# Altium footprint library EISI.PcbLib: 695 footprints (part 36 of 44)
Each footprint in its own frame and in the unit in brackets; x right, y up, seen from the top. Pads: shape width x height; smd on the part's side, far side on the other; paste and mask are expansions set on the pad; w line width, h text height; cw(c..) or ccw(c..) is an arc to the next point about the centre after c.
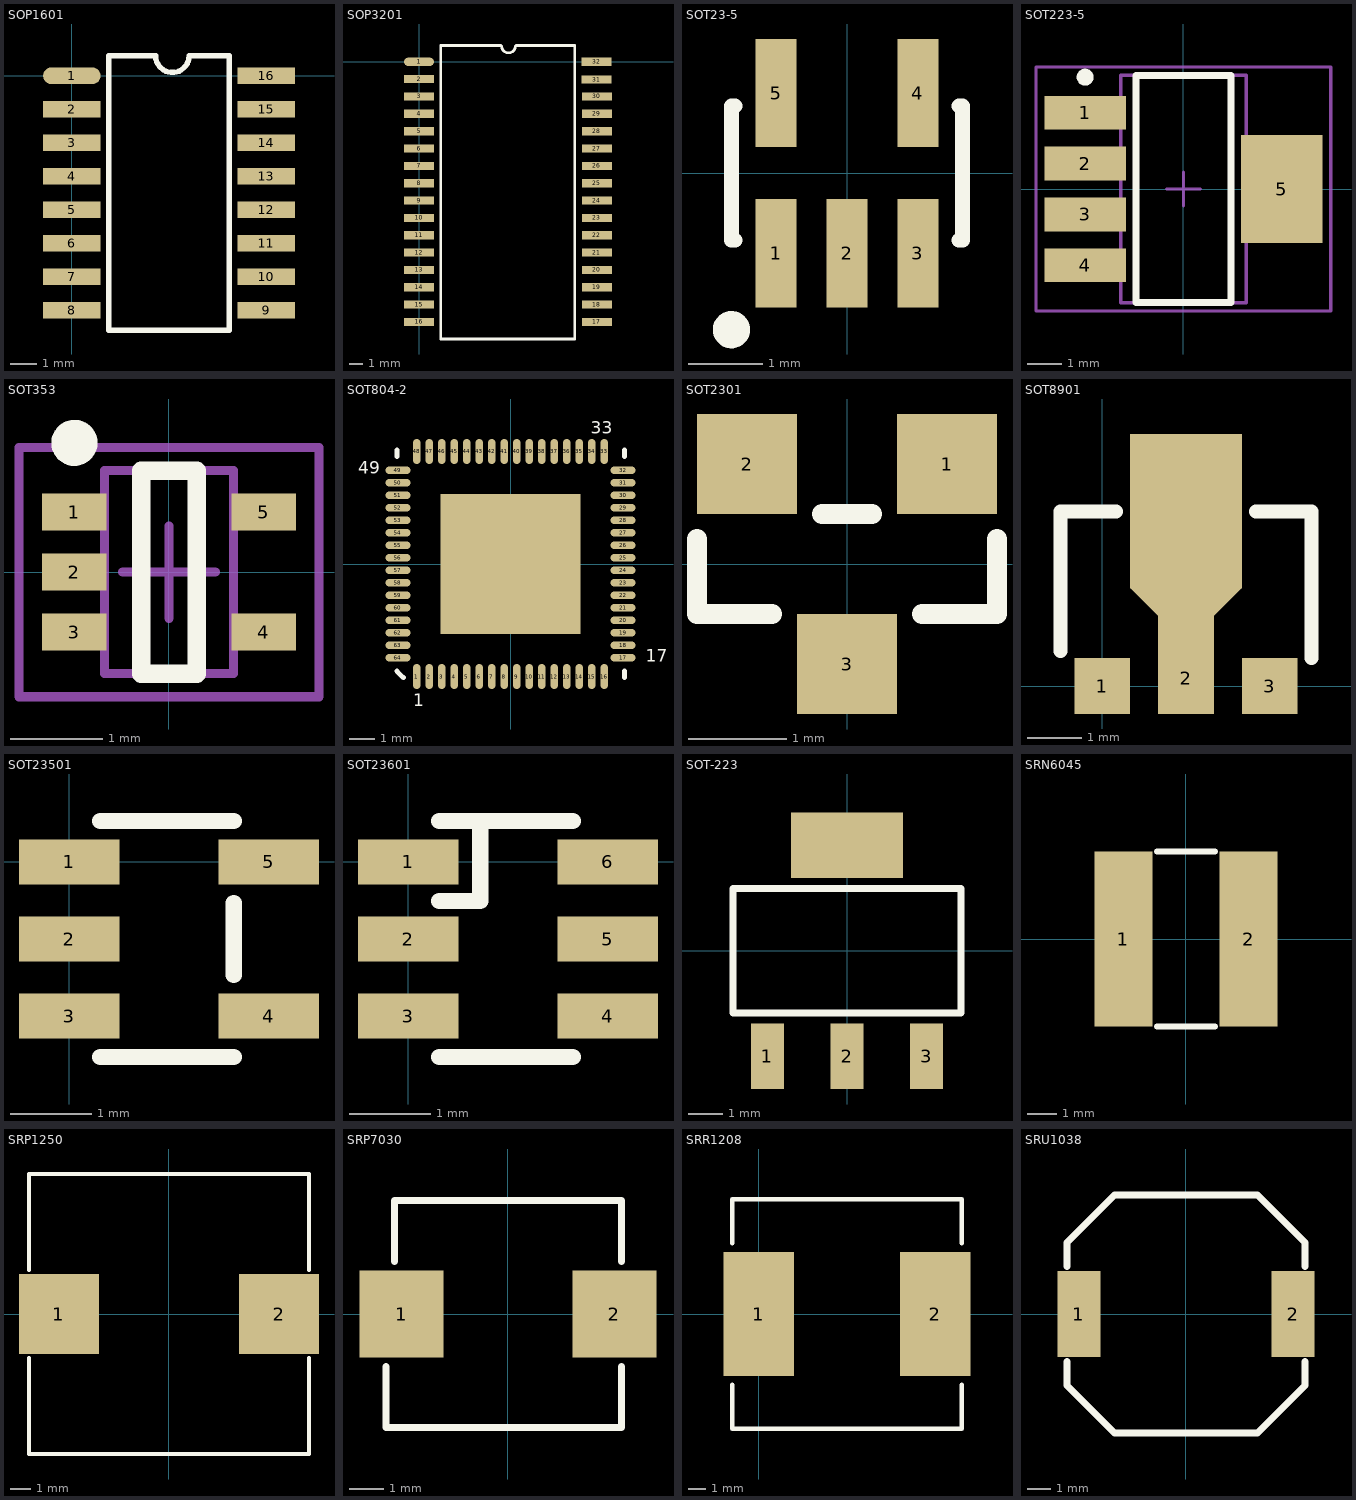
[diagram p35: the footprints below, top view; thin cyan lines are the x and y axes]

## SOP1601 [mil]
pads (16):
  oval 86x25 smd: 1(0,0)
  rect 86x25 smd: 2(0,-50) 3(0,-100) 4(0,-150) 5(0,-200) 6(0,-250) 7(0,-300) 8(0,-350) 9(290,-350) 10(290,-300) 11(290,-250) 12(290,-200) 13(290,-150) 14(290,-100) 15(290,-50) 16(290,0)
TopOverlay:
  lines w7.87: 125,30 55,30 55,20 55,-380 235,-380 235,30 175,30
  lines w8: 125,30 ccw(c150,30) 175,30

## SOP3201 [mm]
pads (32):
  oval 2.2x0.6 smd: 1(0,0)
  rect 2.2x0.6 smd: 2(0,-1.27) 3(0,-2.54) 4(0,-3.81) 5(0,-5.08) 6(0,-6.35) 7(0,-7.62) 8(0,-8.89) 9(0,-10.16) 10(0,-11.43) 11(0,-12.7) 12(0,-13.97) 13(0,-15.24) 14(0,-16.51) 15(0,-17.78) 16(0,-19.05) 17(13.035,-19.05) 18(13.035,-17.78) 19(13.035,-16.51) 20(13.035,-15.24) 21(13.035,-13.97) 22(13.035,-12.7) 23(13.035,-11.43) 24(13.035,-10.16) 25(13.035,-8.89) 26(13.035,-7.62) 27(13.035,-6.35) 28(13.035,-5.08) 29(13.035,-3.81) 30(13.035,-2.54) 31(13,-1.3) 32(13,0)
TopOverlay:
  lines w0.2: 6,1.2 5.1,1.2 1.6,1.2 1.6,-17.272 1.6,-20.3 11.4,-20.3 11.4,1.2 7.1,1.2
  lines w0.203: 6.047,1.162 ccw(c6.555,1.162) 7.063,1.162

## SOT23-5 [mm] "SOT-23/SC-74A; 5 Leads; Body 3 x 3 mm, inc. leads (LxW max)"
height 1.45
pads (5):
  rect 0.55x1.45 smd: 1(-0.95,-1.075) 2(0,-1.075) 3(0.95,-1.075) 4(0.95,1.075) 5(-0.95,1.075)
TopOverlay:
  circle w0.25: c-1.55,-2.1 r0.125
  lines w0.2: -1.5,-0.9 -1.55,-0.9 -1.55,0.9 -1.5,0.9 ; 1.5,-0.9 1.55,-0.9 1.55,0.9 1.5,0.9

## SOT223-5 [mm] "SOT223, 5-Leads, Body 6.5x3.5mm, Pitch 1.5mm, Lead Span 7mm, IPC Medium Density"
height 1.8
pads (5):
  rect 2.4x1 smd: 1(-2.9,2.25) 2(-2.9,0.75) 3(-2.9,-0.75) 4(-2.9,-2.25)
  rect 2.4x3.2 smd: 5(2.9,0)
TopOverlay:
  circle w0.25: c-2.9,3.3 r0.125
  lines w0.2: -1.4,-3.35 1.4,-3.35 1.4,3.35 -1.4,3.35 -1.4,-3.35
Mechanical13:
  lines w0.1: -1.85,-3.35 1.85,-3.35 1.85,3.35 -1.85,3.35 -1.85,-3.35
Mechanical15:
  lines w0.1: -0.5,0 0.5,0 ; 0,-0.5 0,0.5 ; -4.35,-3.6 4.35,-3.6 4.35,3.6 -4.35,3.6 -4.35,-3.6
3D body: height 1.8, standoff 0, extent -1.85,-3.35 1.85,3.35

## SOT353 [mm] "SOT353, 5-Leads, Body 2x1.3mm, Pitch 0.65mm, Lead Span 2.1mm, IPC Medium Density"
height 1.1
pads (5):
  rect 0.7x0.4 smd: 1(-1.025,0.65) 2(-1.025,0) 3(-1.025,-0.65) 4(1.025,-0.65) 5(1.025,0.65)
TopOverlay:
  circle w0.25: c-1.025,1.4 r0.125
  lines w0.2: -0.3,-1.1 0.3,-1.1 0.3,1.1 -0.3,1.1 -0.3,-1.1
Mechanical13:
  lines w0.1: -0.7,-1.1 -0.7,1.1 0.7,1.1 0.7,-1.1 -0.7,-1.1
Mechanical15:
  lines w0.1: -0.5,0 0.5,0 ; 0,-0.5 0,0.5 ; -1.625,-1.35 -1.625,1.35 1.625,1.35 1.625,-1.35 -1.625,-1.35
3D body: height 1.1, standoff 0, extent -0.7,-1.1 0.7,1.1

## SOT804-2 [mm] "Quad Flat No Lead; 64 Terminals; Body 9 x 9 mm; Pitch 0.5 mm"
height 1
pads (65):
  oval 0.3x1 smd: 1(-3.75,-4.5) 2(-3.25,-4.5) 3(-2.75,-4.5) 4(-2.25,-4.5) 5(-1.75,-4.5) 6(-1.25,-4.5) 7(-0.75,-4.5) 8(-0.25,-4.5) 9(0.25,-4.5) 10(0.75,-4.5) 11(1.25,-4.5) 12(1.75,-4.5) 13(2.25,-4.5) 14(2.75,-4.5) 15(3.25,-4.5) 16(3.75,-4.5) 33(3.75,4.5) 34(3.25,4.5) 35(2.75,4.5) 36(2.25,4.5) 37(1.75,4.5) 38(1.25,4.5) 39(0.75,4.5) 40(0.25,4.5) 41(-0.25,4.5) 42(-0.75,4.5) 43(-1.25,4.5) 44(-1.75,4.5) 45(-2.25,4.5) 46(-2.75,4.5) 47(-3.25,4.5) 48(-3.75,4.5)
  oval 1x0.3 smd: 17(4.5,-3.75) 18(4.5,-3.25) 19(4.5,-2.75) 20(4.5,-2.25) 21(4.5,-1.75) 22(4.5,-1.25) 23(4.5,-0.75) 24(4.5,-0.25) 25(4.5,0.25) 26(4.5,0.75) 27(4.5,1.25) 28(4.5,1.75) 29(4.5,2.25) 30(4.5,2.75) 31(4.5,3.25) 32(4.5,3.75) 49(-4.5,3.75) 50(-4.5,3.25) 51(-4.5,2.75) 52(-4.5,2.25) 53(-4.5,1.75) 54(-4.5,1.25) 55(-4.5,0.75) 56(-4.5,0.25) 57(-4.5,-0.25) 58(-4.5,-0.75) 59(-4.5,-1.25) 60(-4.5,-1.75) 61(-4.5,-2.25) 62(-4.5,-2.75) 63(-4.5,-3.25) 64(-4.5,-3.75)
  rect 5.6x5.6 smd: ""(0,0)
TopOverlay:
  lines w0.2: -4.55,-4.29 -4.29,-4.55 ; -4.55,4.29 -4.55,4.55 ; 4.55,-4.55 4.55,-4.29 ; 4.55,4.29 4.55,4.55
  text "1" at -3.9,-5.7 h0.5
  text "17" at 5.4,-3.9 h0.5
  text "33" at 3.2,5.2 h0.5
  text "49" at -6.1,3.6 h0.5

## SOT2301 [mil]
pads (3):
  rect 40x40 smd: 1(40,40) 2(-40,40) 3(0,-40)
TopOverlay:
  lines w7.87: -60,10 -60,-20 -30,-20 ; -10,20 10,20 ; 30,-20 60,-20 60,10

## SOT8901 [mil]
pads (8):
  rect 40x40 smd: 1(0,0) 3(120,0) ""(60,50)
  rect 40x51 smd: 2(60,5.5)
  rect 20x60 smd rot 45: ""(48.5,56)
  rect 80x60 smd: ""(60,100)
  rect 80x51 smd: ""(60,155)
  rect 20x60 smd rot 135: ""(71.5,56)
TopOverlay:
  lines w10: -30,25 -30,125 10,125 ; 110,125 150,125 150,20

## SOT23501 [mil]
pads (5):
  rect 49x22 smd: 1(0,0) 2(0,-37.5) 3(0,-75) 4(97,-75) 5(97,0)
TopOverlay:
  lines w7.87: 15,-95 80,-95 ; 15,20 80,20 ; 80,-55 80,-20

## SOT23601 [mil]
pads (6):
  rect 49x22 smd: 1(0,0) 2(0,-37.5) 3(0,-75) 4(97,-75) 5(97,-37.5) 6(97,0)
TopOverlay:
  lines w7.87: 15,-95 80,-95 ; 15,-19 35,-19 35,20 ; 15,20 80,20

## SOT-223 [mm]
pads (4):
  rect 0.95x1.9 smd: 1(-2.3,-3.05) 2(0,-3.05) 3(2.3,-3.05)
  rect 3.25x1.9 smd: ""(0,3.05)
TopOverlay:
  lines w0.2: -3.3,-1.8 -3.3,1.8 3.3,1.8 3.3,-1.8 -3.3,-1.8

## SRN6045 [mm] "Bournd inductor SRN6045 6x6mm"
height 4.5
pads (2):
  rect 2x6 smd: 1(-2.15,0) 2(2.15,0)
TopOverlay:
  lines w0.2: -1,-3 1,-3 ; -1,3 1,3

## SRP1250 [mm] "Bourns inductor"
height 5.9
pads (2):
  rect 4x4 smd: 1(-5.5,0) 2(5.5,0)
TopOverlay:
  lines w0.2: -7,-2.2 -7,-7 7,-7 7,-2.2 ; -7,2.2 -7,7 7,7 7,2.2

## SRP7030 [mm] "Inductor 6.5 x 6.5mm"
height 3.2
pads (2):
  rect 2.4x2.5 smd: 1(-3.05,0) 2(3.05,0)
TopOverlay:
  lines w0.2: -3.5,-1.5 -3.5,-3.25 3.25,-3.25 3.25,-1.5 ; -3.25,1.5 -3.25,3.25 3.25,3.25 3.25,1.5

## SRR1208 [mm]
pads (2):
  rect 4x7 smd: 1(0,0) 2(10,0)
TopOverlay:
  lines w0.254: -1.5,-4 -1.5,-6.5 11.5,-6.5 11.5,-4 ; -1.5,4 -1.5,6.5 11.5,6.5 11.5,4

## SRU1038 [mm] "SRU1038 Series - Shielded SMD Power Inductors"
height 3.8
pads (2):
  rect 1.8x3.6 smd: 1(-4.5,0) 2(4.5,0)
TopOverlay:
  lines w0.3: -5,-2 -5,-3 -3,-5 3,-5 5,-3 5,-2 ; -5,2 -5,3 -3,5 3,5 5,3 5,2